# EAGLE library part LPC1104UK (library nxp_60_1_1)
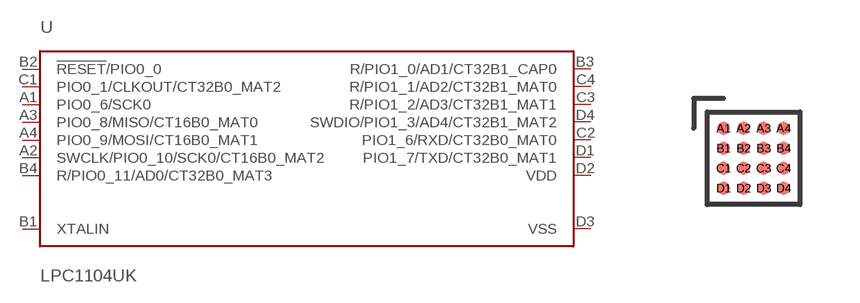
[diagram p145: symbol with the pads of WLCSP16; footprint WLCSP16]

Designator prefix U

## LPC1104UK  [WLCSP16]
A1  PIO0_6/SCK0
A2  SWCLK/PIO0_10/SCK0/CT16B0_MAT2
A3  PIO0_8/MISO/CT16B0_MAT0
A4  PIO0_9/MOSI/CT16B0_MAT1
B1  XTALIN  in
B2  !RESET!/PIO0_0
B3  R/PIO1_0/AD1/CT32B1_CAP0
B4  R/PIO0_11/AD0/CT32B0_MAT3
C1  PIO0_1/CLKOUT/CT32B0_MAT2
C2  PIO1_6/RXD/CT32B0_MAT0
C3  R/PIO1_2/AD3/CT32B1_MAT1
C4  R/PIO1_1/AD2/CT32B1_MAT0
D1  PIO1_7/TXD/CT32B0_MAT1
D2  VDD  pwr
D3  VSS  pwr
D4  SWDIO/PIO1_3/AD4/CT32B1_MAT2

## Footprint WLCSP16 (pad centres in mm)
WLCSP16 - Wafer Level Chip-Size Package LPC1102UK
smd 0.32 x 0.32: A1 -0.75,0.75; A2 -0.25,0.75; A3 0.25,0.75; A4 0.75,0.75; B1 -0.75,0.25; B2 -0.25,0.25; B3 0.25,0.25; B4 0.75,0.25; C1 -0.75,-0.25; C2 -0.25,-0.25; C3 0.25,-0.25; C4 0.75,-0.25; D1 -0.75,-0.75; D2 -0.25,-0.75; D3 0.25,-0.75; D4 0.75,-0.75